# Altium footprint library RelayMux.PcbLib: 19 footprints (part 2 of 2)
Each footprint in its own frame and in the unit in brackets; x right, y up, seen from the top. Pads: shape width x height; smd on the part's side, far side on the other; paste and mask are expansions set on the pad; w line width, h text height; cw(c..) or ccw(c..) is an arc to the next point about the centre after c.
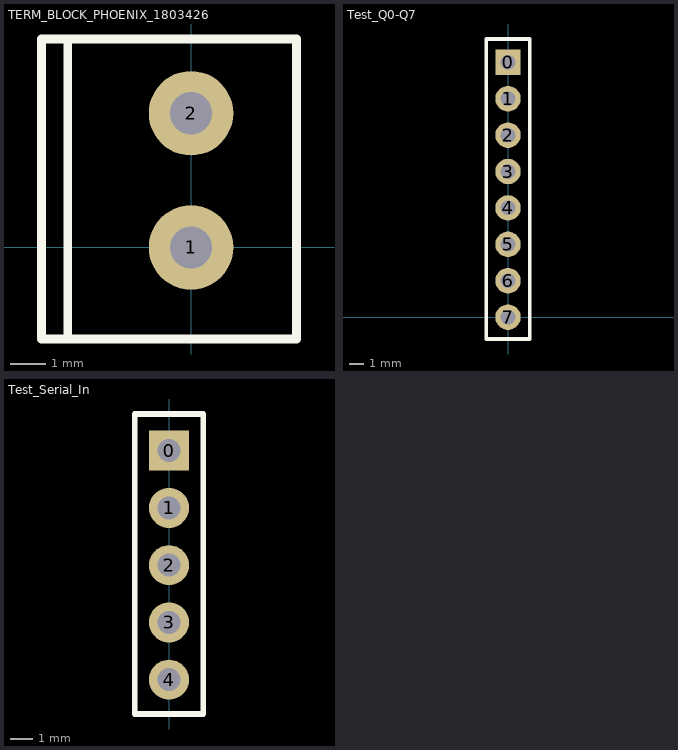
[diagram p1: the footprints below, top view; thin cyan lines are the x and y axes]

## TERM_BLOCK_PHOENIX_1803426 [mm]
pads (2):
  round 2.4 hole 1.2: 1(0,0) 2(0,3.81)
Top Overlay:
  lines w0.254: -3.5,-2.6 -3.5,5.9 ; -4.25,-2.6 -4.25,5.92 3,5.92 3,-2.6 -4.25,-2.6

## Test_Q0-Q7 [mil]
pads (8):
  rect 70x70 hole 40: 0(0,700)
  round 70 hole 40: 1(0,600) 2(0,500) 3(0,400) 4(0,300) 5(0,200) 6(0,100) 7(0,0)
Top Overlay:
  lines w10: -60,-60 60,-60 60,764 -60,764 -60,-60

## Test_Serial_In [mil]
pads (5):
  rect 70x70 hole 40: 0(0,700)
  round 70 hole 40: 1(0,600) 2(0,500) 3(0,400) 4(0,300)
Top Overlay:
  lines w10: -60,240 60,240 60,764 -60,764 -60,240.16